# Altium schematic symbol library IGLT65R055B2.SchLib: 1 symbol
Pins are listed as number, name and electrical type; pins without a type are passive.

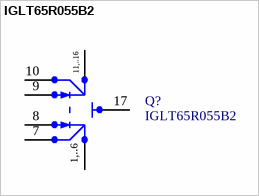
[diagram p0: symbol IGLT65R055B2]

## IGLT65R055B2
designator Q?
Field-Effect Transistor (FET), Enhancement,  Pin 1,2,3,4,5,6 Source1, 7 Kelvin Source1, 8 Gate1, 9 Gate2, 10 Kelvin Source2, 11,12,13,14,15,16 Source2, 17 Substrate 17 Pins; Manufacturer: Infineon Technologies; Manufacturer Order Number: IGLT65R055B2; Package Reference: PG-HDSOP-16-9
pins: 1 S1_1 "Source1", 2 S1_2 "Source1", 3 S1_3 "Source1", 4 S1_4 "Source1", 5 S1_5 "Source1", 6 S1_6 "Source1", 7 KS1 "Kelvin Source1", 8 G1 "Gate1", 9 G2 "Gate2", 10 KS2 "Kelvin Source2", 11 S2_1 "Source2", 12 S2_2 "Source2", 13 S2_3 "Source2", 14 S2_4 "Source2", 15 S2_5 "Source2", 16 S2_6 "Source2", 17 SUB "Sub Strate (Thermal Pad)"
text: 11,..16; 1,..6